# Altium footprint library PB03.PcbLib: 28 footprints (part 1 of 2)
Each footprint in its own frame and in the unit in brackets; x right, y up, seen from the top. Pads: shape width x height; smd on the part's side, far side on the other; paste and mask are expansions set on the pad; w line width, h text height; cw(c..) or ccw(c..) is an arc to the next point about the centre after c.
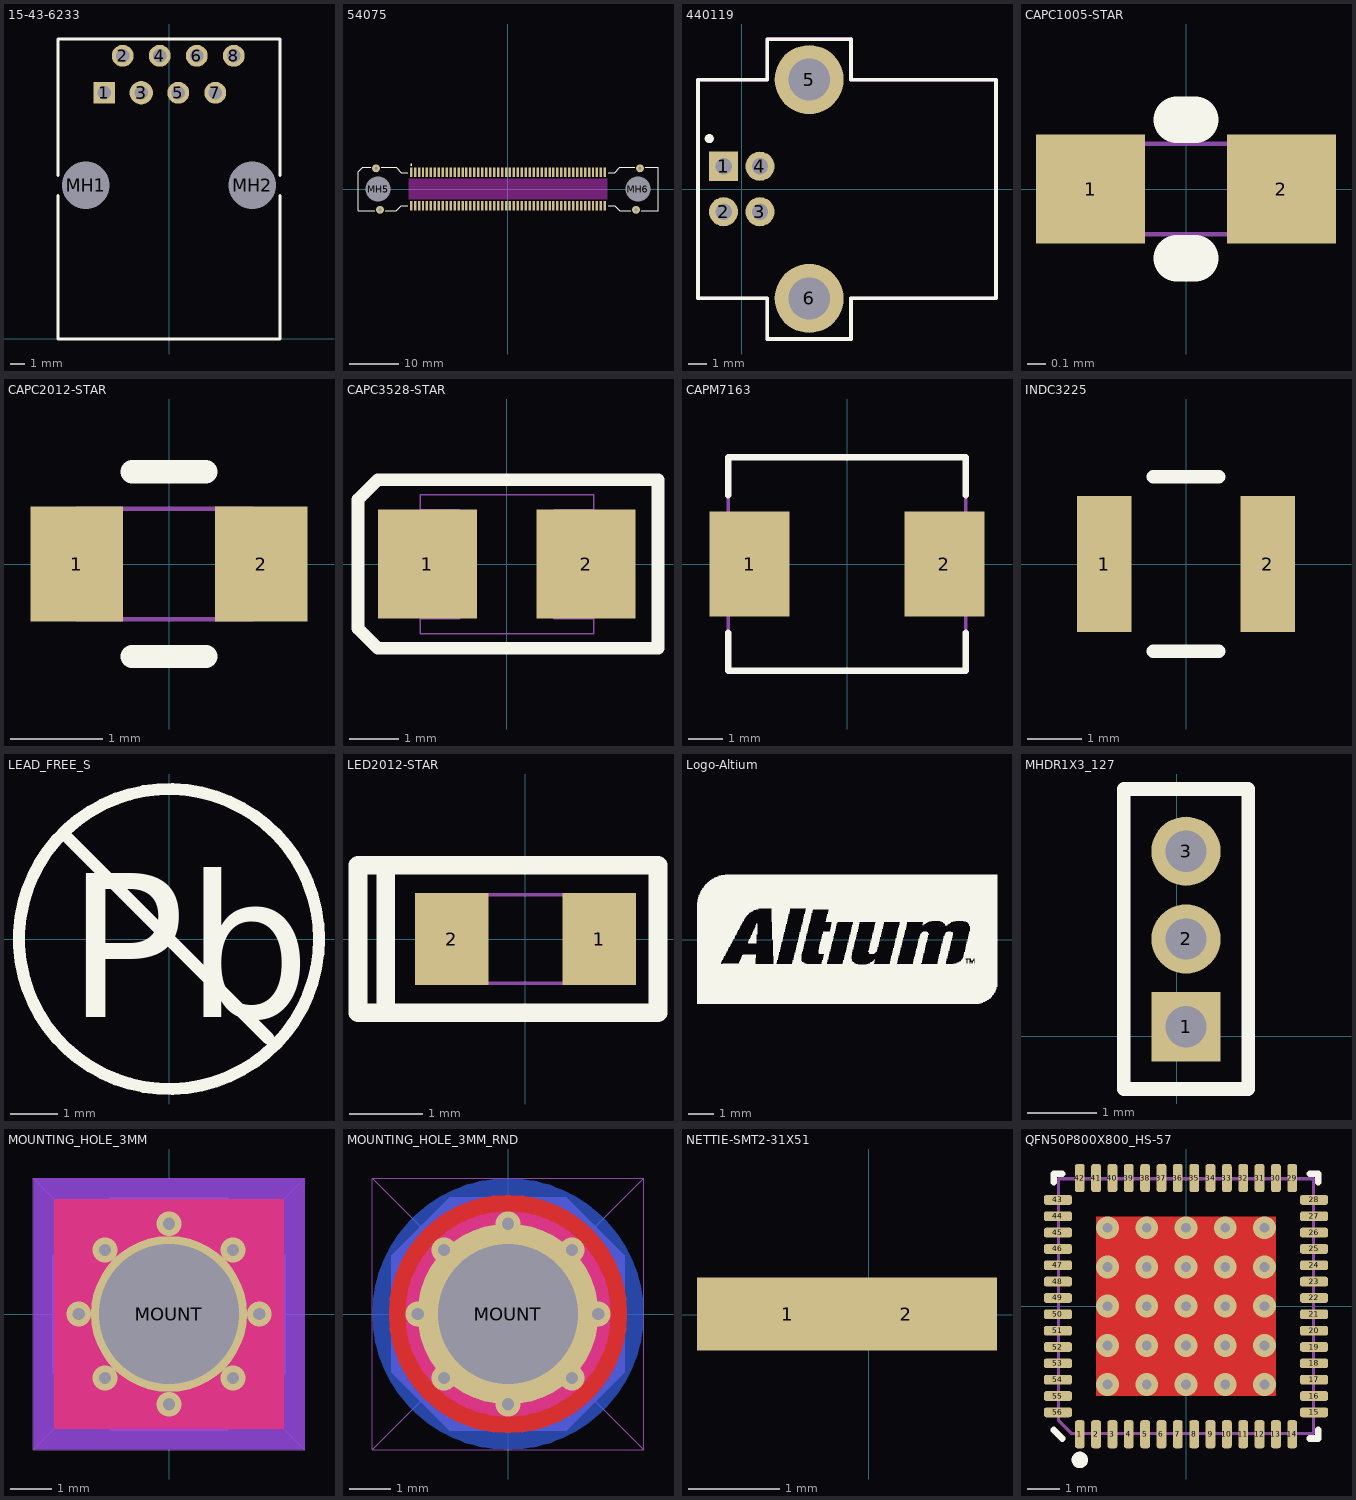
[diagram p0: the footprints below, top view; thin cyan lines are the x and y axes]

## 15-43-6233 [mm]
height 1.35
pads (10):
  rect 1.5x1.5 hole 0.9: 1(-4.445,16.89)
  round 1.5 hole 0.9: 2(-3.175,19.43) 4(-0.635,19.43) 5(0.635,16.89) 6(1.905,19.43) 7(3.175,16.89) 8(4.445,19.43)
  round 1.6 hole 0.9: 3(-1.905,16.89)
  round 2.95 hole 3.25 unplated: MH1(-5.715,10.54) MH2(5.715,10.54)
Top Overlay:
  lines w0.2: -7.62,9.853 -7.62,0 7.62,0 7.62,9.853 ; -7.62,11.227 -7.62,20.58 7.62,20.58 7.62,11.227
3D body: height 11, standoff -2, extent 2.818,16.53 3.537,17.249
3D body: height 11, standoff -2, extent 0.261,16.537 0.98,17.256
3D body: height 11, standoff -2, extent -2.286,16.535 -1.567,17.253
3D body: height 11, standoff -2, extent -4.819,16.53 -4.1,17.249
3D body: height 11, standoff -2, extent -3.546,19.076 -2.827,19.795
3D body: height 11, standoff -2, extent -0.989,19.076 -0.27,19.795
3D body: height 11, standoff -2, extent 1.533,19.08 2.252,19.799
3D body: height 11, standoff -2, extent 4.092,19.084 4.811,19.802
3D body: height 11, standoff 0.1, extent -4.799,17.809 -4.08,18.528
3D body: height 11, standoff 0.1, extent -3.566,17.809 -2.847,18.528
3D body: height 11, standoff 0.1, extent -2.252,17.823 -1.533,18.541
3D body: height 11, standoff 0.1, extent -1.018,17.778 -0.3,18.497
3D body: height 11, standoff 0.1, extent 0.246,17.8 0.965,18.519
3D body: height 11, standoff 0.1, extent 1.547,17.791 2.266,18.51
3D body: height 0.3, standoff -2, extent 4.171,8.986 7.274,12.089
3D body: height 11, standoff 0.1, extent 4.126,17.805 4.844,18.524
3D body: height 11, standoff 0.1, extent 2.83,17.805 3.549,18.524
3D body: height 1, standoff 0, extent -7.081,0.017 7.179,20.579
3D body: height 11, standoff 0, extent -7.548,0.092 -6.512,20.579
3D body: height 11, standoff 0, extent 6.648,0.017 7.684,20.503
3D body: height 11.5, standoff 11, extent 4.107,6.345 4.824,18.564
3D body: height 11.5, standoff 11, extent 2.804,6.345 3.52,18.564
3D body: height 11.5, standoff 11, extent 1.5,6.36 2.217,18.579
3D body: height 11.5, standoff 11, extent 0.197,6.314 0.914,18.533
3D body: height 11.5, standoff 11, extent -1.013,6.314 -0.297,18.533
3D body: height 11.5, standoff 11, extent -2.27,6.345 -1.553,18.564
3D body: height 11.5, standoff 11, extent -3.558,6.36 -2.841,18.579
3D body: height 11.5, standoff 11, extent -4.804,6.356 -4.087,18.575
3D body: height 0.3, standoff -2, extent -7.269,8.994 -4.166,12.097
3D body: height 7, standoff 0, extent -7.493,15.875 7.429,20.383
3D body: height 11, standoff 0, extent -7.493,19.304 7.62,20.574
3D body: height 2.6, standoff 0, extent 3.365,0 7.556,1.158
3D body: height 2.6, standoff 0, extent -7.556,0 -3.365,1.158
3D body: height 1.8, standoff 0, extent -3.365,0 -2.222,1.158
3D body: height 1.8, standoff 0, extent 2.222,0 3.365,1.158
3D body: height 11, standoff 0, extent -7.556,0 -5.969,1.158
3D body: height 11, standoff 0, extent 5.905,-0.071 7.493,1.087
3D body: height 11.45, standoff 10, extent -7.493,0 7.493,20.32

## 54075 [mm]
height 3.6
pads (106):
  rect 0.5x1.9 smd: 1(-19.6,3.4) 2(-19.6,-3.4) 3(-18.8,3.4) 4(-18.8,-3.4) 5(-18,3.4) 6(-18,-3.4) 7(-17.2,3.4) 8(-17.2,-3.4) 9(-16.4,3.4) 10(-16.4,-3.4) 11(-15.6,3.4) 12(-15.6,-3.4) 13(-14.8,3.4) 14(-14.8,-3.4) 15(-14,3.4) 16(-14,-3.4) 17(-13.2,3.4) 18(-13.2,-3.4) 19(-12.4,3.4) 20(-12.4,-3.4) 21(-11.6,3.4) 22(-11.6,-3.4) 23(-10.8,3.4) 24(-10.8,-3.4) 25(-10,3.4) 26(-10,-3.4) 27(-9.2,3.4) 28(-9.2,-3.4) 29(-8.4,3.4) 30(-8.4,-3.4) 31(-7.6,3.4) 32(-7.6,-3.4) 33(-6.8,3.4) 34(-6.8,-3.4) 35(-6,3.4) 36(-6,-3.4) 37(-5.2,3.4) 38(-5.2,-3.4) 39(-4.4,3.4) 40(-4.4,-3.4) 41(-3.6,3.4) 42(-3.6,-3.4) 43(-2.8,3.4) 44(-2.8,-3.4) 45(-2,3.4) 46(-2,-3.4) 47(-1.2,3.4) 48(-1.2,-3.4) 49(-0.4,3.4) 50(-0.4,-3.4) 51(0.4,3.4) 52(0.4,-3.4) 53(1.2,3.4) 54(1.2,-3.4) 55(2,3.4) 56(2,-3.4) 57(2.8,3.4) 58(2.8,-3.4) 59(3.6,3.4) 60(3.6,-3.4) 61(4.4,3.4) 62(4.4,-3.4) 63(5.2,3.4) 64(5.2,-3.4) 65(6,3.4) 66(6,-3.4) 67(6.8,3.4) 68(6.8,-3.4) 69(7.6,3.4) 70(7.6,-3.4) 71(8.4,3.4) 72(8.4,-3.4) 73(9.2,3.4) 74(9.2,-3.4) 75(10,3.4) 76(10,-3.4) 77(10.8,3.4) 78(10.8,-3.4) 79(11.6,3.4) 80(11.6,-3.4) 81(12.4,3.4) 82(12.4,-3.4) 83(13.2,3.4) 84(13.2,-3.4) 85(14,3.4) 86(14,-3.4) 87(14.8,3.4) 88(14.8,-3.4) 89(15.6,3.4) 90(15.6,-3.4) 91(16.4,3.4) 92(16.4,-3.4) 93(17.2,3.4) 94(17.2,-3.4) 95(18,3.4) 96(18,-3.4) 97(18.8,3.4) 98(18.8,-3.4) 99(19.6,3.4) 100(19.6,-3.4)
  round 1.6 hole 0.7: MH1(-26.7,4.2) MH2(-25.9,-4.2) MH3(26.7,4.2) MH4(25.9,-4.2)
  round 4.8 hole 5.1 unplated: MH5(-26.3,0) MH6(26.3,0)
Top Layer keep-out:
  rectangle: -20.15,-2.15 20.15,2.15
Top Overlay:
  circle w0.25: c-19.6,4.9 r0.125
  lines w0.2: -27.76,4.4 -29.4,4.4 -30.35,3.464 -30.35,-4.4 -26.96,-4.4 ; -25.64,4.4 -22.65,4.4 -21.6,3.35 -20.25,3.35 ; -24.84,-4.4 -22.65,-4.4 -21.6,-3.35 -20.25,-3.35 ; 20.25,-3.35 21.6,-3.35 22.65,-4.4 24.84,-4.4 ; 20.25,3.35 21.6,3.35 22.65,4.4 25.64,4.4 ; 26.96,-4.4 30.35,-4.4 30.35,4.4 27.76,4.4
3D body "54075 - 1009 Receptacle.stp": height 3.71, standoff -2.39, extent -30.353,-4.4 30.347,4.4

## 440119 [mm] "Connector; USB1.1, Type B, Thru-Hole; 4 Position; Right Angle"
height 11.05
pads (6):
  rect 1.6x1.6 hole 0.9: 1(-1,1.25)
  round 1.6 hole 0.9: 2(-1,-1.25) 3(1,-1.25) 4(1,1.25)
  round 3.8 hole 2.3: 5(3.71,6.02) 6(3.71,-6.02)
Top Overlay:
  circle w0.25: c-1.79,2.774 r0.125
  lines w0.2: -2.41,-6.02 1.41,-6.02 1.41,-8.255 6.01,-8.255 6.01,-6.02 13.99,-6.02 13.99,6.02 6.01,6.02 6.01,8.242 5.956,8.242 1.41,8.242 1.41,6.02 -2.41,6.02 -2.41,-6.02
Mechanical 7:
  lines w0.2: -2.41,-6.02 -2.41,6.02 1.41,6.02 1.41,8.255 6.01,8.255 6.01,6.02 13.99,6.02 13.99,-6.02 6.01,-6.02 6.01,-8.255 1.41,-8.255 1.41,-6.02 -2.41,-6.02
3D body "USB-B-S-F-W-TH.stp": height 8.15, standoff -8.15, extent -1.437,-6.751 13.283,8.147

## CAPC1005-STAR [mm] "Chip Capacitor 1005"
height 0.014
pads (2):
  rect 0.6x0.6 smd: 1(-0.525,0) 2(0.525,0)
Top Overlay:
  lines w0.254: -0.051,-0.381 0.051,-0.381 ; -0.051,0.381 0.051,0.381
Mechanical 7:
  lines w0.025: -0.5,-0.25 -0.5,0.25 0.5,0.25 0.5,-0.25 -0.5,-0.25
  text ".Designator" at -0.475,0.075 h0.14
  text ".Comment" at -0.475,-0.2 h0.14
3D body: height 0.2, standoff 0, extent -0.233,-0.299 0.236,0.301
3D body: height 0.2, standoff 0, extent 0.23,-0.3 0.573,0.3
3D body: height 0.2, standoff 0, extent -0.571,-0.301 -0.228,0.299

## CAPC2012-STAR [mm] "0805 Capacitor SMD - Startronics"
pads (2):
  rect 1x1.25 smd: 1(-1,0) 2(1,0)
Top Overlay:
  lines w0.25: -0.4,-1 0.4,-1
  lines w0.254: -0.4,1 0.4,1
Mechanical 7:
  lines w0.05: -1,-0.6 0.9,-0.6 0.9,0.6 -1,0.6 -1,-0.6
  text ".Comment" at -0.9,-0.475 h0.4
  text ".Designator" at -0.9,0.15 h0.4
3D body: height 0.5, standoff 0, extent -1.32,-0.687 -0.528,0.663
3D body: height 0.5, standoff 0, extent 0.435,-0.678 1.228,0.672
3D body: height 0.5, standoff 0, extent -0.528,-0.642 0.462,0.627

## CAPC3528-STAR [mm] "Capacitor 3.5x2.8mm (B-Case)"
height 2.1
pads (2):
  rect 2x2.2 smd: 1(-1.6,0) 2(1.6,0)
Top Overlay:
  lines w0.254: -3,-1.3 -3,1.3 -2.6,1.7 3.05,1.7 3.05,-1.7 -2.6,-1.7 -3,-1.3
Mechanical 7:
  lines w0.025: -1.748,-1.104 -0.948,-1.104 -0.948,1.096 -1.748,1.096 ; 1.752,-1.104 0.952,-1.104 0.952,1.096 1.752,1.096 ; -1.748,-1.404 -1.748,1.396 1.752,1.396 1.752,-1.404 -1.748,-1.404
  text ".Comment" at -1.7,-2.2 h0.5
  text ".Designator" at -1.8,1.8 h0.5
3D body: height 0.3, standoff 0, extent -1.793,-0.665 -1.568,0.824
3D body: height 0.3, standoff 0, extent 1.578,-0.658 1.803,0.768
3D body: height 1, standoff 0, extent -1.704,-1.539 1.763,1.537

## CAPM7163 [mm]
pads (2):
  rect 2.35x3.1 smd: 1(-2.875,0) 2(2.875,0)
Top Overlay:
  lines w0.2: -3.5,-2.025 -3.5,-3.15 0,-3.15 3.5,-3.15 3.5,-2.025 ; -3.5,2.025 -3.5,3.15 0,3.15 3.5,3.15 3.5,2.025
Mechanical 7:
  lines w0.1: -3.5,-3.15 0,-3.15 3.5,-3.15 3.5,3.15 0,3.15 -3.5,3.15 -3.5,-3.15
  text ".Designator" at -3.065,2.159 h0.8
  text ".Comment" at -3.048,-2.794 h0.8
3D body: height 0.5, standoff 0, extent 2.68,-0.709 3.201,0.819
3D body: height 0.5, standoff 0, extent -3.1,-0.742 -2.579,0.785
3D body: height 1.5, standoff 0, extent -3.018,-2.635 3.086,2.806

## INDC3225 [mm]
pads (2):
  rect 1x2.5 smd: 1(-1.5,0) 2(1.5,0)
Top Overlay:
  lines w0.254: -0.6,-1.6 0.6,-1.6 ; -0.6,1.6 0.6,1.6
3D body: height 0.51, standoff 0, extent -1.252,-1.136 1.288,1.15
3D body: height 1.78, standoff 1.27, extent -1.252,-1.136 1.288,1.15
3D body: height 1.78, standoff 0, extent 0.831,0.87 1.275,1.124
3D body: height 1.78, standoff 0, extent 0.831,-1.111 1.275,-0.857
3D body: height 1.78, standoff 0, extent -1.227,0.87 -0.782,1.124
3D body: height 1.78, standoff 0, extent -1.227,-1.111 -0.782,-0.857
3D body: height 0.38, standoff 0, extent 1.288,-0.374 1.415,0.388
3D body: height 0.38, standoff 0, extent -1.379,-0.311 -1.252,0.451
3D body: height 0.64, standoff 0, extent 0.713,-0.401 1.415,0.134
3D body: height 0.64, standoff 0, extent -1.316,0.134 -0.674,0.667
3D body: height 0.89, standoff 0.76, extent -0.817,-0.822 0.942,0.937
3D body: height 0.76, standoff 0.51, extent -0.712,-0.747 0.793,0.758
3D body: height 0.64, standoff 0, extent -0.842,-0.824 0.953,0.972
3D body: height 1.02, standoff 0.89, extent -0.757,-0.62 0.748,0.885
3D body: height 1.14, standoff 1.02, extent -0.702,-0.807 1.056,0.952
3D body: height 1.27, standoff 1.14, extent -0.938,-0.778 0.868,1.018

## LEAD_FREE_S [mm]
height 2.2
Top Overlay:
  circle w0.254: c0,0 r3.172
  lines w0.254: -2.121,2.121 2.106,-2.106
  text "Pb" at -2.159,-1.651 h3.05

## LED2012-STAR [mm] "0805 LED SMD - Startronics"
height 0.8
pads (2):
  rect 1x1.25 smd: 1(1,0) 2(-1,0)
Top Overlay:
  lines w0.25: -2.275,-1 1.8,-1 ; -2.275,1 1.8,1
  lines w0.254: -2.275,-1 -2.275,1 ; -1.9,-1 -1.9,1 ; 1.8,-1 1.8,1
Mechanical 7:
  lines w0.05: -1,-0.6 0.9,-0.6 0.9,0.6 -1,0.6 -1,-0.6
  text ".Comment" at -0.9,-0.475 h0.4
  text ".Designator" at -0.9,0.15 h0.4
3D body: height 0.67, standoff 0.6, extent -0.475,-0.6 0.275,0.6
3D body: height 0.6, standoff 0, extent -1.599,-0.6 1.5,0.6

## Logo-Altium [mm]
height 1.1
Top Overlay:
  drawing of 903 lines, arcs and shapes, not listed

## MHDR1X3_127 [mm]
pads (3):
  rect 1x1 hole 0.6: 1(0.133,0.134)
  round 1 hole 0.6: 2(0.133,1.404) 3(0.133,2.674)
Top Overlay:
  lines w0.2: -0.767,-0.766 1.033,-0.766 1.033,3.574 -0.767,3.574 -0.767,-0.766
3D body: height 3.81, standoff 1.27, extent -0.066,1.196 0.343,1.638
3D body: height 3.81, standoff 1.27, extent -0.051,-0.073 0.358,0.369
3D body: height 3.81, standoff 1.27, extent -0.074,2.462 0.335,2.904
3D body: height 1.27, standoff -1.27, extent -0.076,1.195 0.333,1.637
3D body: height 1.27, standoff -1.27, extent -0.053,-0.061 0.356,0.381
3D body: height 1.27, standoff -1.27, extent -0.055,2.464 0.354,2.906
3D body: height 3.78, standoff 0, extent -0.595,-0.488 0.899,3.429

## MOUNTING_HOLE_3MM [mm] "Non-plated mounting hole for 3mm screw"
height 3.5
pads (1):
  round 3.8 hole 3.4 mask+0.2: MOUNT(0,0)
via 1.556,1.556 diameter 0.6 hole 0.3
via 2.2,0 diameter 0.6 hole 0.3
via 1.556,-1.556 diameter 0.6 hole 0.3
via 0,-2.2 diameter 0.6 hole 0.3
via -1.556,-1.556 diameter 0.6 hole 0.3
via -2.2,0 diameter 0.6 hole 0.3
via -1.556,1.556 diameter 0.6 hole 0.3
via 0,2.2 diameter 0.6 hole 0.3
Top Layer:
  circle w1: c0,0 r2.3
  rectangle: -2.8,-2.8 2.8,2.8
Top Layer keep-out:
  rectangle: -3.3,-3.3 3.3,3.3
Bottom Layer:
  rectangle: -2.8,-2.8 2.8,2.8
Bottom Layer keep-out:
  rectangle: -3.3,-3.3 3.3,3.3
Top Solder:
  rectangle: -3.2,-3.2 3.2,3.2
Bottom Solder:
  rectangle: -3,-3 3,3
Keep-Out Layer:
  circle w1.2: c0,0 r2.5
Mechanical 2:
  lines w0.025: -3.3,-3.3 -3.3,3.3 ; -3.3,-3.3 3.3,-3.3 ; -3.3,-3.3 0,0 ; -3.3,3.3 0,0 ; -3.3,3.3 3.3,3.3 ; 0,0 3.3,3.3 ; 0,0 3.3,-3.3 ; 3.3,-3.3 3.3,3.3
Mechanical 7:
  circle w0.1: c0,0.002 r2.7
  circle w1.2: c0,0 r2.2
  rectangle: 0.5,0.8 1.6,1.6
  region: 1.6,0.5 1.6,1.6 0.8,1.6 0.8,0.5
  region: 0.5,0.8 0.8,0.5 1.366,1.066 1.066,1.366
  region: -0.8,0.5 -0.8,1.6 -1.6,1.6 -1.6,0.5
  region: -0.5,1.6 -1.6,1.6 -1.6,0.8 -0.5,0.8
  region: -0.8,0.5 -0.5,0.8 -1.066,1.366 -1.366,1.066
  region: -0.5,-0.8 -1.6,-0.8 -1.6,-1.6 -0.5,-1.6
  region: -1.6,-0.5 -1.6,-1.6 -0.8,-1.6 -0.8,-0.5
  region: -0.5,-0.8 -0.8,-0.5 -1.366,-1.065 -1.066,-1.365
  region: 0.8,-0.5 0.8,-1.6 1.6,-1.6 1.6,-0.5
  rectangle: 0.5,-1.6 1.6,-0.8
  region: 0.8,-0.5 0.5,-0.8 1.065,-1.366 1.365,-1.066
Mechanical 8:
  circle w0.6: c0,0 r2
  rectangle: 1.7,-1.4 2.8,1.4
  region: -1.951,-0.551 -2.8,-1.4 -1.4,-2.8 -0.551,-1.951
  region: -0.551,1.951 -1.4,2.8 -2.8,1.4 -1.951,0.551
  region: 1.951,0.551 2.8,1.4 1.4,2.8 0.551,1.951
  region: 0.551,-1.951 1.4,-2.8 2.8,-1.4 1.951,-0.551
  region: -1.4,-1.7 -1.4,-2.8 1.4,-2.8 1.4,-1.7
  region: 1.4,1.7 1.4,2.8 -1.4,2.8 -1.4,1.7
  rectangle: -2.8,-1.4 -1.7,1.4
  lines w0.1: -2.8,-1.4 -1.4,-2.8 1.4,-2.8 2.8,-1.4 2.8,1.4 1.4,2.8 -1.4,2.8 -2.8,1.4 -2.8,-1.4

## MOUNTING_HOLE_3MM_RND [mm] "Non-plated mounting hole for 3mm screw"
height 3.5
pads (1):
  round 4.4 hole 3.4 mask+0.2: MOUNT(0,0)
via 1.556,1.556 diameter 0.6 hole 0.3
via 2.2,0 diameter 0.6 hole 0.3
via 1.556,-1.556 diameter 0.6 hole 0.3
via 0,-2.2 diameter 0.6 hole 0.3
via -1.556,-1.556 diameter 0.6 hole 0.3
via -2.2,0 diameter 0.6 hole 0.3
via -1.556,1.556 diameter 0.6 hole 0.3
via 0,2.2 diameter 0.6 hole 0.3
Top Layer:
  circle w1: c0,0 r2.4
Bottom Layer:
  circle w1.2: c0,0 r2.702
Top Solder:
  circle w1.6: c0,0 r2.4
Bottom Solder:
  circle w2.6: c0,0 r2.3
Keep-Out Layer:
  circle w0.6: c0,0 r2.2
Mechanical 2:
  lines w0.025: -3.3,-3.3 -3.3,3.3 ; -3.3,-3.3 3.3,-3.3 ; -3.3,-3.3 0,0 ; -3.3,3.3 0,0 ; -3.3,3.3 3.3,3.3 ; 0,0 3.3,3.3 ; 0,0 3.3,-3.3 ; 3.3,-3.3 3.3,3.3
Mechanical 7:
  circle w0.1: c0,0.002 r2.7
  circle w1.2: c0,0 r2.2
  rectangle: 0.5,0.8 1.6,1.6
  region: 1.6,0.5 1.6,1.6 0.8,1.6 0.8,0.5
  region: 0.5,0.8 0.8,0.5 1.366,1.066 1.066,1.366
  region: -0.8,0.5 -0.8,1.6 -1.6,1.6 -1.6,0.5
  region: -0.5,1.6 -1.6,1.6 -1.6,0.8 -0.5,0.8
  region: -0.8,0.5 -0.5,0.8 -1.066,1.366 -1.366,1.066
  region: -0.5,-0.8 -1.6,-0.8 -1.6,-1.6 -0.5,-1.6
  region: -1.6,-0.5 -1.6,-1.6 -0.8,-1.6 -0.8,-0.5
  region: -0.5,-0.8 -0.8,-0.5 -1.366,-1.066 -1.066,-1.366
  region: 0.8,-0.5 0.8,-1.6 1.6,-1.6 1.6,-0.5
  rectangle: 0.5,-1.6 1.6,-0.8
  region: 0.8,-0.5 0.5,-0.8 1.066,-1.366 1.366,-1.066
Mechanical 8:
  circle w0.6: c0,0 r2
  rectangle: 1.7,-1.4 2.8,1.4
  region: -1.951,-0.551 -2.8,-1.4 -1.4,-2.8 -0.551,-1.951
  region: -0.551,1.951 -1.4,2.8 -2.8,1.4 -1.951,0.551
  region: 1.951,0.551 2.8,1.4 1.4,2.8 0.551,1.951
  region: 0.551,-1.951 1.4,-2.8 2.8,-1.4 1.951,-0.551
  region: -1.4,-1.7 -1.4,-2.8 1.4,-2.8 1.4,-1.7
  region: 1.4,1.7 1.4,2.8 -1.4,2.8 -1.4,1.7
  rectangle: -2.8,-1.4 -1.7,1.4
  lines w0.1: -2.8,-1.4 -1.4,-2.8 1.4,-2.8 2.8,-1.4 2.8,1.4 1.4,2.8 -1.4,2.8 -2.8,1.4 -2.8,-1.4

## NETTIE-SMT2-31X51 [mm]
height 3.4
pads (2):
  rect 2x0.8 smd paste-0.5 mask-0.5: 1(-0.891,0.006) 2(0.409,0.006)

## QFN50P800X800_HS-57 [mm] "Quad Flat No Lead; 56 Terminals; Body 8 x 8 mm; Pitch 0.5 mm, Punch Version"
height 1
pads (56):
  rrect50% 0.3x0.86 smd: 1(-3.25,-3.92) 2(-2.75,-3.92) 3(-2.25,-3.92) 4(-1.75,-3.92) 5(-1.25,-3.92) 6(-0.75,-3.92) 7(-0.25,-3.92) 8(0.25,-3.92) 9(0.75,-3.92) 10(1.25,-3.92) 11(1.75,-3.92) 12(2.25,-3.92) 13(2.75,-3.92) 14(3.25,-3.92) 29(3.25,3.92) 30(2.75,3.92) 31(2.25,3.92) 32(1.75,3.92) 33(1.25,3.92) 34(0.75,3.92) 35(0.25,3.92) 36(-0.25,3.92) 37(-0.75,3.92) 38(-1.25,3.92) 39(-1.75,3.92) 40(-2.25,3.92) 41(-2.75,3.92) 42(-3.25,3.92)
  rrect50% 0.86x0.3 smd: 15(3.92,-3.25) 16(3.92,-2.75) 17(3.92,-2.25) 18(3.92,-1.75) 19(3.92,-1.25) 20(3.92,-0.75) 21(3.92,-0.25) 22(3.92,0.25) 23(3.92,0.75) 24(3.92,1.25) 25(3.92,1.75) 26(3.92,2.25) 27(3.92,2.75) 28(3.92,3.25) 43(-3.92,3.25) 44(-3.92,2.75) 45(-3.92,2.25) 46(-3.92,1.75) 47(-3.92,1.25) 48(-3.92,0.75) 49(-3.92,0.25) 50(-3.92,-0.25) 51(-3.92,-0.75) 52(-3.92,-1.25) 53(-3.92,-1.75) 54(-3.92,-2.25) 55(-3.92,-2.75) 56(-3.92,-3.25)
via 2.4,1.2 diameter 0.7 hole 0.3
via 2.4,0 diameter 0.7 hole 0.3
via 2.4,-1.2 diameter 0.7 hole 0.3
via 1.2,2.4 diameter 0.7 hole 0.3
via 1.2,1.2 diameter 0.7 hole 0.3
via 1.2,0 diameter 0.7 hole 0.3
via 1.2,-1.2 diameter 0.7 hole 0.3
via 0,2.4 diameter 0.7 hole 0.3
via 0,1.2 diameter 0.7 hole 0.3
via 0,-2.4 diameter 0.7 hole 0.3
via 0,0 diameter 0.7 hole 0.3
via 0,-1.2 diameter 0.7 hole 0.3
via -1.2,2.4 diameter 0.7 hole 0.3
via -1.2,1.2 diameter 0.7 hole 0.3
via -1.2,0 diameter 0.7 hole 0.3
via -1.2,-1.2 diameter 0.7 hole 0.3
via -2.4,1.2 diameter 0.7 hole 0.3
via -2.4,0 diameter 0.7 hole 0.3
via -2.4,-1.2 diameter 0.7 hole 0.3
via -1.2,-2.4 diameter 0.7 hole 0.3
via 1.2,-2.4 diameter 0.7 hole 0.3
via 2.4,-2.4 diameter 0.7 hole 0.3
via -2.4,2.4 diameter 0.7 hole 0.3
via -2.4,-2.4 diameter 0.7 hole 0.3
via 2.4,2.4 diameter 0.7 hole 0.3
Top Layer:
  rectangle: -2.75,-2.75 2.75,2.75
Top Overlay:
  circle w0.25: c-3.25,-4.705 r0.125
  lines w0.2: -4.05,-3.79 -3.79,-4.05 ; -4.05,3.79 -4.05,4.05 -3.79,4.05 ; 3.79,-4.05 4.05,-4.05 4.05,-3.79 ; 3.79,4.05 4.05,4.05 4.05,3.79
Top Paste:
  rectangle: -2.8,-2.8 2.8,2.8
Top Solder:
  circle w0.3: c2.4,-1.2 r0.4
  circle w0.3: c2.4,-2.4 r0.4
  circle w0.3: c1.2,-2.4 r0.4
  circle w0.3: c1.2,-1.2 r0.4
  circle w0.3: c0,-1.2 r0.4
  circle w0.3: c0,-2.4 r0.4
  circle w0.3: c-1.2,-2.4 r0.4
  circle w0.3: c-1.2,-1.2 r0.4
  circle w0.3: c-2.4,-1.2 r0.4
  circle w0.3: c-2.4,-2.4 r0.4
  circle w0.3: c-2.4,0 r0.4
  circle w0.3: c-1.2,0 r0.4
  circle w0.3: c0,0 r0.4
  circle w0.3: c1.2,0 r0.4
  circle w0.3: c2.4,0 r0.4
  circle w0.3: c2.4,1.2 r0.4
  circle w0.3: c1.2,1.2 r0.4
  circle w0.3: c0,1.2 r0.4
  circle w0.3: c-1.2,1.2 r0.4
  circle w0.3: c-2.4,1.2 r0.4
  circle w0.3: c-2.4,2.4 r0.4
  circle w0.3: c-1.2,2.4 r0.4
  circle w0.3: c0,2.4 r0.4
  circle w0.3: c1.2,2.4 r0.4
  circle w0.3: c2.4,2.4 r0.4
  rectangle: -2.75,-2.75 2.75,2.75
  lines w0.3: -2.811,-2.816 2.802,-2.816 2.802,2.823 -2.811,2.823 -2.811,-2.816
  lines w0.6: -2.659,-1.8 2.65,-1.8 ; -2.659,-0.606 2.65,-0.606 ; -2.659,0.588 2.65,0.588 ; -2.659,1.807 2.65,1.807 ; -1.795,-2.638 -1.795,2.671 ; -0.602,-2.663 -0.602,2.645 ; 0.592,-2.663 0.592,2.645 ; 1.811,-2.663 1.811,2.645
Mechanical 7:
  circle w0.25: c-3.25,-4.705 r0.125
  lines w0.1: -3.9,-3.5 -3.5,-3.9 3.9,-3.9 3.9,3.9 -3.9,3.9 -3.9,-3.5
  text ".Designator" at -3.725,3.2 h0.8
  text ".Comment" at -3.4,-3.6 h0.8
3D body: height 0.5, standoff 0, extent -3.67,-3.643 3.649,3.573
3D body: height 0.3, standoff 0.1, extent 1.131,3.58 1.393,3.842
3D body: height 0.2, standoff 0, extent 1.137,3.713 1.399,4.281
3D body: height 0.2, standoff 0, extent 3.142,3.713 3.404,4.281
3D body: height 0.3, standoff 0.1, extent 3.137,3.581 3.398,3.842
3D body: height 0.2, standoff 0, extent 2.642,3.713 2.904,4.281
3D body: height 0.3, standoff 0.1, extent 2.637,3.581 2.898,3.842
3D body: height 0.2, standoff 0, extent 2.142,3.713 2.404,4.281
3D body: height 0.3, standoff 0.1, extent 2.137,3.581 2.398,3.842
3D body: height 0.2, standoff 0, extent 1.642,3.713 1.904,4.281
3D body: height 0.3, standoff 0.1, extent 1.637,3.581 1.898,3.842
3D body: height 0.3, standoff 0.1, extent -0.86,3.574 -0.599,3.835
3D body: height 0.2, standoff 0, extent -0.855,3.706 -0.593,4.274
3D body: height 0.3, standoff 0.1, extent -0.36,3.574 -0.099,3.835
3D body: height 0.2, standoff 0, extent -0.355,3.706 -0.093,4.274
3D body: height 0.3, standoff 0.1, extent 0.14,3.574 0.401,3.835
3D body: height 0.2, standoff 0, extent 0.145,3.706 0.407,4.274
3D body: height 0.3, standoff 0.1, extent 0.64,3.574 0.901,3.835
3D body: height 0.2, standoff 0, extent 0.645,3.706 0.907,4.274
3D body: height 0.3, standoff 0.1, extent -2.863,3.582 -2.601,3.843
3D body: height 0.2, standoff 0, extent -2.857,3.714 -2.595,4.282
3D body: height 0.3, standoff 0.1, extent -2.363,3.582 -2.101,3.843
3D body: height 0.2, standoff 0, extent -2.357,3.714 -2.095,4.282
3D body: height 0.3, standoff 0.1, extent -1.863,3.582 -1.601,3.843
3D body: height 0.2, standoff 0, extent -1.857,3.714 -1.595,4.282
3D body: height 0.3, standoff 0.1, extent -1.363,3.582 -1.101,3.843
3D body: height 0.2, standoff 0, extent -1.357,3.714 -1.095,4.282
3D body: height 0.3, standoff 0.1, extent -3.854,1.63 -3.593,1.892
3D body: height 0.2, standoff 0, extent -4.293,1.636 -3.725,1.897
3D body: height 0.3, standoff 0.1, extent -3.854,2.13 -3.593,2.392
3D body: height 0.2, standoff 0, extent -4.293,2.136 -3.725,2.397
3D body: height 0.3, standoff 0.1, extent -3.854,2.63 -3.593,2.892
3D body: height 0.2, standoff 0, extent -4.293,2.636 -3.725,2.897
3D body: height 0.2, standoff 0, extent -4.293,3.136 -3.725,3.397
3D body: height 0.3, standoff 0.1, extent -3.854,3.13 -3.593,3.392
3D body: height 0.3, standoff 0.1, extent -3.854,-0.356 -3.593,-0.094
3D body: height 0.2, standoff 0, extent -4.293,-0.35 -3.725,-0.089
3D body: height 0.3, standoff 0.1, extent -3.858,0.136 -3.597,0.398
3D body: height 0.2, standoff 0, extent -4.297,0.142 -3.729,0.403
3D body: height 0.3, standoff 0.1, extent -3.858,0.648 -3.597,0.91
3D body: height 0.2, standoff 0, extent -4.297,0.654 -3.729,0.915
3D body: height 0.3, standoff 0.1, extent -3.858,1.14 -3.597,1.402
3D body: height 0.2, standoff 0, extent -4.297,1.146 -3.729,1.407
3D body: height 0.3, standoff 0.1, extent -3.862,-2.374 -3.601,-2.113
3D body: height 0.2, standoff 0, extent -4.301,-2.368 -3.733,-2.107
3D body: height 0.3, standoff 0.1, extent -3.862,-1.89 -3.601,-1.629
3D body: height 0.2, standoff 0, extent -4.301,-1.884 -3.733,-1.623
3D body: height 0.3, standoff 0.1, extent -3.862,-1.39 -3.601,-1.129
3D body: height 0.2, standoff 0, extent -4.301,-1.384 -3.733,-1.123
3D body: height 0.3, standoff 0.1, extent -3.862,-0.862 -3.601,-0.601
3D body: height 0.2, standoff 0, extent -4.301,-0.856 -3.733,-0.595
3D body: height 0.3, standoff 0.1, extent -3.868,-2.87 -3.606,-2.608
3D body: height 0.2, standoff 0, extent -4.316,-2.865 -3.748,-2.604
3D body: height 0.2, standoff 0, extent -4.316,-3.356 -3.748,-3.095
3D body: height 0.3, standoff 0.1, extent -3.868,-3.361 -3.354,-3.099
3D body: height 0.3, standoff 0.1, extent -3.392,-3.834 -3.131,-3.572
3D body: height 0.2, standoff 0, extent -3.387,-4.235 -3.126,-3.667
3D body: height 0.3, standoff 0.1, extent -2.892,-3.834 -2.631,-3.572
3D body: height 0.2, standoff 0, extent -2.887,-4.235 -2.626,-3.667
3D body: height 0.3, standoff 0.1, extent -2.392,-3.834 -2.131,-3.572
3D body: height 0.2, standoff 0, extent -2.387,-4.235 -2.126,-3.667
3D body: height 0.3, standoff 0.1, extent -1.892,-3.834 -1.631,-3.572
3D body: height 0.2, standoff 0, extent -1.887,-4.235 -1.626,-3.667
3D body: height 0.3, standoff 0.1, extent -1.392,-3.834 -1.131,-3.572
3D body: height 0.2, standoff 0, extent -1.387,-4.235 -1.126,-3.667
3D body: height 0.3, standoff 0.1, extent -0.892,-3.834 -0.631,-3.572
3D body: height 0.2, standoff 0, extent -0.887,-4.235 -0.626,-3.667
3D body: height 0.3, standoff 0.1, extent -0.392,-3.834 -0.131,-3.572
3D body: height 0.2, standoff 0, extent -0.387,-4.235 -0.126,-3.667
3D body: height 0.3, standoff 0.1, extent 0.108,-3.834 0.369,-3.572
3D body: height 0.2, standoff 0, extent 0.113,-4.235 0.374,-3.667
3D body: height 0.3, standoff 0.1, extent 0.608,-3.834 0.869,-3.572
3D body: height 0.2, standoff 0, extent 0.613,-4.235 0.874,-3.667
3D body: height 0.3, standoff 0.1, extent 1.108,-3.834 1.369,-3.572
3D body: height 0.2, standoff 0, extent 1.113,-4.235 1.374,-3.667
3D body: height 0.3, standoff 0.1, extent 1.608,-3.834 1.869,-3.572
3D body: height 0.2, standoff 0, extent 1.613,-4.235 1.874,-3.667
3D body: height 0.3, standoff 0.1, extent 2.108,-3.834 2.369,-3.572
3D body: height 0.2, standoff 0, extent 2.113,-4.235 2.374,-3.667
3D body: height 0.3, standoff 0.1, extent 2.608,-3.834 2.869,-3.572
3D body: height 0.2, standoff 0, extent 2.613,-4.235 2.874,-3.667
3D body: height 0.3, standoff 0.1, extent 3.108,-3.834 3.369,-3.572
3D body: height 0.2, standoff 0, extent 3.113,-4.235 3.374,-3.667
3D body: height 0.3, standoff 0.1, extent 3.601,3.104 3.863,3.365
3D body: height 0.2, standoff 0, extent 3.696,3.109 4.264,3.37
3D body: height 0.3, standoff 0.1, extent 3.601,2.604 3.863,2.865
3D body: height 0.2, standoff 0, extent 3.696,2.609 4.264,2.87
3D body: height 0.3, standoff 0.1, extent 3.601,2.104 3.863,2.365
3D body: height 0.2, standoff 0, extent 3.696,2.109 4.264,2.37
3D body: height 0.3, standoff 0.1, extent 3.601,1.604 3.863,1.865
3D body: height 0.2, standoff 0, extent 3.696,1.609 4.264,1.87
3D body: height 0.3, standoff 0.1, extent 3.601,1.104 3.863,1.365
3D body: height 0.2, standoff 0, extent 3.696,1.109 4.264,1.37
3D body: height 0.3, standoff 0.1, extent 3.601,0.604 3.863,0.865
3D body: height 0.2, standoff 0, extent 3.696,0.609 4.264,0.87
3D body: height 0.3, standoff 0.1, extent 3.601,0.104 3.863,0.365
3D body: height 0.2, standoff 0, extent 3.696,0.109 4.264,0.37
3D body: height 0.3, standoff 0.1, extent 3.601,-0.396 3.863,-0.135
3D body: height 0.2, standoff 0, extent 3.696,-0.391 4.264,-0.13
3D body: height 0.3, standoff 0.1, extent 3.601,-0.896 3.863,-0.635
3D body: height 0.2, standoff 0, extent 3.696,-0.891 4.264,-0.63
3D body: height 0.3, standoff 0.1, extent 3.601,-1.396 3.863,-1.135
3D body: height 0.2, standoff 0, extent 3.696,-1.391 4.264,-1.13
3D body: height 0.3, standoff 0.1, extent 3.601,-1.896 3.863,-1.635
3D body: height 0.2, standoff 0, extent 3.696,-1.891 4.264,-1.63
3D body: height 0.3, standoff 0.1, extent 3.601,-2.396 3.863,-2.135
3D body: height 0.2, standoff 0, extent 3.696,-2.391 4.264,-2.13
3D body: height 0.3, standoff 0.1, extent 3.601,-2.896 3.863,-2.635
3D body: height 0.2, standoff 0, extent 3.696,-2.891 4.264,-2.63
3D body: height 0.3, standoff 0.1, extent 3.601,-3.396 3.863,-3.135
3D body: height 0.2, standoff 0, extent 3.696,-3.391 4.264,-3.13
3D body: height 0.2, standoff 0, extent -3.386,3.707 -3.125,4.275
3D body: height 0.3, standoff 0.1, extent -3.381,3.589 -3.119,3.85
3D body: height 0.55, standoff 0, extent -3.08,-3.083 -2.409,-2.412